# EAGLE library part RESISTOR-NETWORK-X4 (library deiring-components)
Resistor Network Array 4
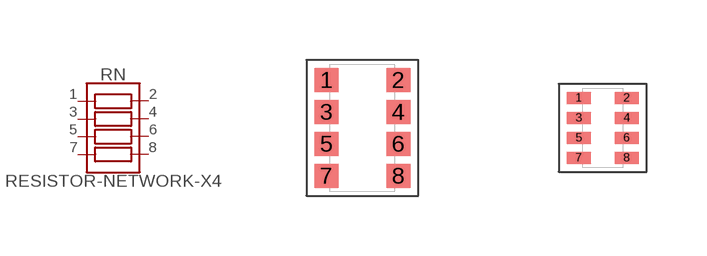
[diagram p16: symbol with the pads of I0603-M1608-RN-X4; footprints I0603-M1608-RN-X4, I0402-M1005-RN-X4]

Designator prefix RN

## RESISTOR-NETWORK-X4-10K-I0603-M1608-RN-X4 (LCSC: C29718; MF: Uniroyal Elec; MPN: 4D03WGJ0103T5E; VALUE: 4x10k)  [I0603-M1608-RN-X4]
1  1  pas
2  2  pas
3  3  pas
4  4  pas
5  5  pas
6  6  pas
7  7  pas
8  8  pas

## RESISTOR-NETWORK-X4-10K-I0402-M1005-RN-X4 (LCSC: C25725; MF: Uniroyal Elec; MPN: 4D02WGJ0103TCE; VALUE: 4x10k)  [I0402-M1005-RN-X4]
Pads as for I0603-M1608-RN-X4

## Footprint I0603-M1608-RN-X4 (pad centres in mm)
smd 0.6 x 0.6: 1 -0.9,1.2; 2 0.9,1.2; 3 -0.9,0.4; 4 0.9,0.4; 5 -0.9,-0.4; 6 0.9,-0.4; 7 -0.9,-1.2; 8 0.9,-1.2

## Footprint I0402-M1005-RN-X4 (pad centres in mm)
smd 0.6 x 0.3: 1 -0.6,0.75; 2 0.6,0.75; 3 -0.6,0.25; 4 0.6,0.25; 5 -0.6,-0.25; 6 0.6,-0.25; 7 -0.6,-0.75; 8 0.6,-0.75